# Altium schematic symbol library Ahristi_Library.SchLib: 438 symbols (part 1 of 5)
Pins are listed as number, name and electrical type; pins without a type are passive.

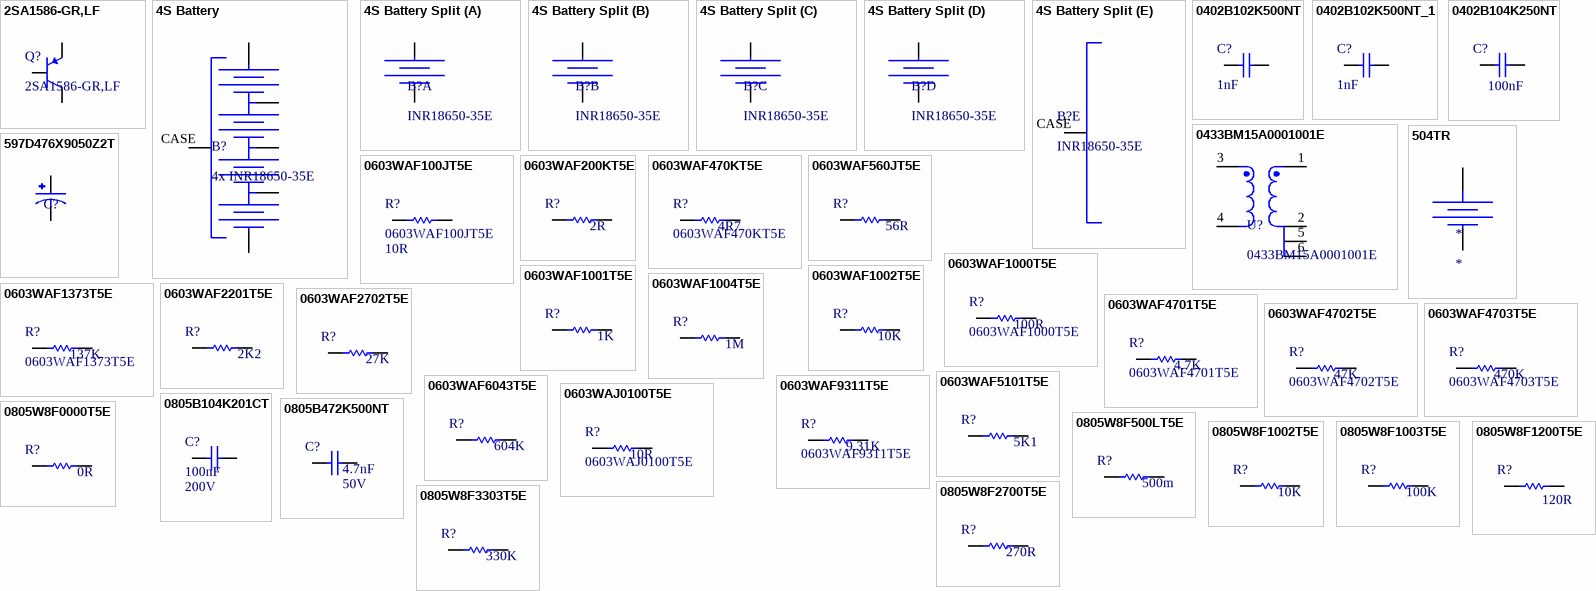
[diagram p0: symbols 2SA1586-GR,LF to 0805W8F3303T5E]

## 2SA1586-GR,LF
designator Q?
BJT PNP -50VCEO, -0.15A IC. -0.3V AEC-Q101; Manufacturer: Toshiba; VCEO: -50V; Ic: 0.15A; VCE saturation: 100mV; Part Number: 2SA1586-GR,LF; Distributor: Mouser; Distributor Part Number: 2SA1586-GR,LF; Operating Temperature: -55°C to 125°C; Qualification: AEC-Q101
footprint SOT23-3 BJT (Diodes Incorporated SOT-23 land pattern with MOSFET pin designators)
pins: B, C, E

## 4S Battery
designator B?, comment 4x INR18650-35E
Custom 4S battery component for Cubesat EPS; Part Number: N/A; Distributor Part Number: N/A
footprint 4S Battery (Custom 4S Battery Footprint)
pins: 1, 2, 3, 4, 5, CASE

## 4S Battery Split
designator B?, comment INR18650-35E
Custom 4S battery component for Cubesat EPS; Part Number: N/A; Distributor Part Number: N/A
footprint 4S Battery Direct Solder (Custom 4S Battery Footprint)
part A pins: 1, 2
part B pins: 3, 4
part C pins: 5, 6
part D pins: 7, 8
part E pins: CASE

## 0402B102K500NT
designator C?  Capacitance: 1nF  (hidden comment: 0402B102K500NT)
1nF 50V X7R ±10% 0402 Multilayer Ceramic Capacitors MLCC - SMD/SMT ROHS; Manufacturer: FH; Part Number: 0402B102K500NT; Tolerance: 10%; Distributor Part Number: C1523; Case Code: 0402; Distributor: JLCPCB; Dielectric: X7R; Voltage Rating: 50V
footprint CAPC0402X020 (Chip Capacitor, 2-Leads, Body 1.00x0.50mm, IPC Medium Density)
footprint CAPC0402X045
pins: 1, 2

## 0402B102K500NT_1
designator C?, comment Capacitance: 1nF  (hidden comment: 0402B102K500NT)
1nF 50V X7R ±10% 0402 Multilayer Ceramic Capacitors MLCC; Manufacturer: FH; Part Number: 0402B102K500NT; Tolerance: 10%; Distributor Part Number: C1523; Case Code: 0402; Distributor: JLCPCB; Dielectric: X7R; Voltage Rating: 50V
footprint CAPC0402X020 (Chip Capacitor, 2-Leads, Body 1.00x0.50mm, IPC Medium Density)
footprint CAPC0402X045
pins: 1, 2

## 0402B104K250NT
designator C?  Capacitance: 100nF  (hidden comment: 0402B104K250NT)
100nF 25V X7R ±10% 0402 Multilayer Ceramic Capacitors MLCC - SMD/SMT ROHS; Manufacturer: FH; Part Number: 0402B104K250NT; Tolerance: 10%; Distributor Part Number: C56392; Case Code: 0402; Distributor: JLCPCB; Dielectric: X7R; Voltage Rating: 25V
footprint CAPC0402X020 (Chip Capacitor, 2-Leads, Body 1.00x0.50mm, IPC Medium Density)
footprint CAPC0402X045
pins: 1, 2

## 0433BM15A0001001E
designator U?
RF Balun 430MHz ~ 435MHz 50 / -Ohm 0805 (2012 Metric), 6 PC Pad; Phase Difference: 180° ±10°; Insertion Loss (Max): 1.9dB; Return Loss: 9.5dB; Part Number: 0433BM15A0001001E; Frequency Range: 430MHz ~ 435MHz; ComponentLink1Description: Datasheet; ComponentLink1URL: https://www.johansontechnology.com/docs/876/0433BM15A0001_UhnVLFg.pdf; Distributor: *; Distributor Part Number: *
footprint 0433BM15A0001 (RF FILTER BAND PASS 433MHZ 0805)
pins: 1 3, 2 1, 3 6, 4 5, 5 1, 6 1

## 504TR
designator *
Battery Holder (Open) Coin, 16.0mm 1 Cell SMD (SMT) Tab; Part Number: 504TR; Base Material: LCP UL94V-0; Battery Reference: ML621; Distributor Part Number: 36-504CT-ND; Operating Temperature: -50C to 145C
footprint 504TR (Battery Holder (Open) Coin, 16.0mm 1 Cell SMD (SMT) Tab)
pins: 1, 2

## 597D476X9050Z2T
designator C?  (value not drawn)
47uF Conformal Coated Tantalum capacitor 50V 240mOhm; Part Number: 597D476X9050Z2T; Distributor: Digikey; Distributor Part Number: 718-1408-1-ND; Capacitance: 47uF; Voltage Rating: 50V; ERS: 240mOhm; Operating Temperature: -55°C ~ 125°C
footprint 597D476X9050Z2T (3024 Tantalum Capacitor)
pins: 1, 2

## 0603WAF100JT5E
designator R?  Resistance: 10R
10Ohms 75V Thick Film Resistor ±1% ±400ppm/℃ 0603 Chip Resistor - Surface Mount ROHS; Manufacturer: UNI-ROYAL; Part Number: 0603WAF100JT5E; Tolerance: 1%; Distributor Part Number: C22859; Distributor: JLCPCB; Case Code: 0603
footprint RESC0603 (Chip Resistor, 2-Leads, Body 1.60x0.80mm, IPC Medium Density)
pins: 1, 2

## 0603WAF200KT5E
designator R?  Resistance: 2R  (hidden comment: 0603WAF200KT5E)
2Ohm 75V Thick Film Resistor ±1% ±200ppm/℃ 0603 Chip Resistor - Surface Mount ROHS; Manufacturer: UNI-ROYAL; Part Number: 0603WAF200KT5E; Tolerance: 1%; Distributor Part Number: C22977; Distributor: JLCPCB; Case Code: 0603
footprint RESC0603 (Chip Resistor, 2-Leads, Body 1.60x0.80mm, IPC Medium Density)
pins: 1, 2

## 0603WAF470KT5E
designator R?  Resistance: 4R7
4.7Ohm 75V Thick Film Resistor ±1% ±400ppm/℃ 0603 Chip Resistor; Manufacturer: UNI-ROYAL; Part Number: 0603WAF470KT5E; Tolerance: 1%; Distributor Part Number: C23164; Distributor: JLCPCB; Case Code: 0603
footprint RESC0603 (Chip Resistor, 2-Leads, Body 1.60x0.80mm, IPC Medium Density)
pins: 1, 2

## 0603WAF560JT5E
designator R?  Resistance: 56R  (hidden comment: 0603WAF560JT5E)
56 Ohms 75V Thick Film Resistor ±1% ±200ppm/℃ 0603 Chip Resistor - Surface Mount ROHS; Manufacturer: UNI-ROYAL; Part Number: 0603WAF560JT5E; Tolerance: 1%; Distributor Part Number: C25196; Distributor: JLCPCB; Case Code: 0603
footprint RESC0603 (Chip Resistor, 2-Leads, Body 1.60x0.80mm, IPC Medium Density)
pins: 1, 2

## 0603WAF1000T5E
designator R?  Resistance: 100R
100 Ohms 75V Thick Film Resistor ±1% ±100ppm/℃ 0603 Chip Resistor - Surface Mount ROHS; Manufacturer: UNI-ROYAL; Part Number: 0603WAF1000T5E; Tolerance: 1%; Distributor Part Number: C22775; Distributor: JLCPCB; Case Code: 0603
footprint RESC0603 (Chip Resistor, 2-Leads, Body 1.60x0.80mm, IPC Medium Density)
pins: 1, 2

## 0603WAF1001T5E
designator R?  Resistance: 1K  (hidden comment: 0603WAF1001T5E)
1 kOhms 75V Thick Film Resistor ±1% ±100ppm/℃ 0603 Chip Resistor - Surface Mount ROHS; Manufacturer: UNI-ROYAL; Part Number: 0603WAF1001T5E; Tolerance: 1%; Distributor Part Number: C21190; Distributor: JLCPCB; Case Code: 0603
footprint RESC0603 (Chip Resistor, 2-Leads, Body 1.60x0.80mm, IPC Medium Density)
pins: 1, 2

## 0603WAF1002T5E
designator R?  Resistance: 10K  (hidden comment: 0603WAF1002T5E)
10kOhms ±1% 100mW 0603 Thick Film Resistor; Part Number: 0603WAF1002T5E; Tolerance: 1%; Distributor Part Number: C25804; Distributor: JLCPCB; Case Code: 0603
footprint RESC0603 (Chip Resistor, 2-Leads, Body 1.60x0.80mm, IPC Medium Density)
pins: 1, 2

## 0603WAF1004T5E
designator R?  Resistance: 1M  (hidden comment: 0603WAF1004T5E)
1 MOhms 75V Thick Film Resistor ±1% ±100ppm/℃ 0603 Chip Resistor - Surface Mount ROHS; Manufacturer: UNI-ROYAL; Part Number: 0603WAF1004T5E; Tolerance: 1%; Distributor Part Number: C22935; Distributor: JLCPCB; Case Code: 0603
footprint RESC0603 (Chip Resistor, 2-Leads, Body 1.60x0.80mm, IPC Medium Density)
pins: 1, 2

## 0603WAF1373T5E
designator R?  Resistance: 137K
137kOhms ±1% 100mW 0603 Thick Film Resistor; Manufacturer: UNI-ROYAL; Part Number: 0603WAF1373T5E; Tolerance: 1%; Distributor Part Number: C22872; Distributor: JLCPCB; Case Code: 0603
footprint RESC0603 (Chip Resistor, 2-Leads, Body 1.60x0.80mm, IPC Medium Density)
pins: 1, 2

## 0603WAF2201T5E
designator R?  Resistance: 2K2  (hidden comment: 0603WAF2201T5E)
2.2kOhms 75V Thick Film Resistor ±1% ±100ppm/℃ 0603 Chip Resistor - Surface Mount ROHS; Manufacturer: UNI-ROYAL; Part Number: 0603WAF2201T5E; Tolerance: 1%; Distributor Part Number: C4190; Distributor: JLCPCB; Case Code: 0603
footprint RESC0603 (Chip Resistor, 2-Leads, Body 1.60x0.80mm, IPC Medium Density)
pins: 1, 2

## 0603WAF2702T5E
designator R?  Resistance: 27K  (hidden comment: 0603WAF2702T5E)
27 kOhms 75V Thick Film Resistor ±1% ±100ppm/℃ 0603 Chip Resistor - Surface Mount ROHS; Manufacturer: UNI-ROYAL; Part Number: 0603WAF2702T5E; Tolerance: 1%; Distributor Part Number: C22967; Distributor: JLCPCB; Case Code: 0603
footprint RESC0603 (Chip Resistor, 2-Leads, Body 1.60x0.80mm, IPC Medium Density)
pins: 1, 2

## 0603WAF4701T5E
designator R?  Resistance: 4.7K
4.7 kOhms 75V Thick Film Resistor ±1% ±100ppm/℃ 0603 Chip Resistor - Surface Mount ROHS; Manufacturer: UNI-ROYAL; Part Number: 0603WAF4701T5E; Tolerance: 1%; Distributor Part Number: C23162; Distributor: JLCPCB; Case Code: 0603
footprint RESC0603 (Chip Resistor, 2-Leads, Body 1.60x0.80mm, IPC Medium Density)
pins: 1, 2

## 0603WAF4702T5E
designator R?  Resistance: 47K
47kOhms 75V Thick Film Resistor ±1% ±100ppm/℃ 0603 Chip Resistor - Surface Mount ROHS; Manufacturer: UNI-ROYAL; Part Number: 0603WAF4702T5E; Tolerance: 1%; Distributor Part Number: C25819; Distributor: JLCPCB; Case Code: 0603
footprint RESC0603 (Chip Resistor, 2-Leads, Body 1.60x0.80mm, IPC Medium Density)
pins: 1, 2

## 0603WAF4703T5E
designator R?  Resistance: 470K
470kOhms ±1% 100mW 0603 Thick Film Resistor; Manufacturer: UNI-ROYAL; Part Number: 0603WAF4703T5E; Tolerance: 1%; Distributor Part Number: C23178; Distributor: JLCPCB; Case Code: 0603
footprint RESC0603 (Chip Resistor, 2-Leads, Body 1.60x0.80mm, IPC Medium Density)
pins: 1, 2

## 0603WAF5101T5E
designator R?  Resistance: 5K1  (hidden comment: 0603WAF5101T5E)
5.1KOhm 0603 75V Thick Film Resistor ±1% ±100ppm/℃ -55℃~+155℃ 100mW; Manufacturer: UNIROYAL; Part Number: 0603WAF5101T5E; Tolerance: 1%; Distributor Part Number: C23186; Distributor: JLCPCB; Case Code: 0603
footprint RESC0603 (Chip Resistor, 2-Leads, Body 1.60x0.80mm, IPC Medium Density)
pins: 1, 2

## 0603WAF6043T5E
designator R?  Resistance: 604K  (hidden comment: 0603WAF6043T5E)
604 kOhms 75V Thick Film Resistor ±1% ±100ppm/℃ 0603 Chip Resistor - Surface Mount ROHS; Manufacturer: UNI-ROYAL; Part Number: 0603WAF6043T5E; Tolerance: 1%; Distributor Part Number: C23216; Distributor: JLCPCB; Case Code: 0805
footprint RESC0603 (Chip Resistor, 2-Leads, Body 1.60x0.80mm, IPC Medium Density)
pins: 1, 2

## 0603WAF9311T5E
designator R?  Resistance: 9.31K
9.31 kOhms Thick Film Resistor ±1% ±100ppm/℃ 0603 Chip Resistor - Surface Mount ROHS; Manufacturer: UNI-ROYAL; Part Number: 0603WAF9311T5E; Tolerance: 1%; Distributor Part Number: C23126; Distributor: JLCPCB; Case Code: 0603
footprint RESC0603 (Chip Resistor, 2-Leads, Body 1.60x0.80mm, IPC Medium Density)
pins: 1, 2

## 0603WAJ0100T5E
designator R?  Resistance: 10R
10 Ohms 75V Thick Film Resistor ±200ppm/℃ ±5% 0603 Chip Resistor - Surface Mount ROHS -55℃~+155℃; Part Number: 0603WAJ0100T5E; Tolerance: 5%; Distributor Part Number: C25202; Distributor: JLCPCB; Case Code: 0603
footprint RESC0603 (Chip Resistor, 2-Leads, Body 1.60x0.80mm, IPC Medium Density)
pins: 1, 2

## 0805B104K201CT
designator C?  Voltage Rating: 200V  Capacitance: 100nF  (hidden comment: 0805B104K201CT)
0.1 µF ±10% 200V Ceramic Capacitor X7R 0805 (2012 Metric); Part Number: 0805B104K201CT; Distributor Part Number: 1292-0805B104K201CT-ND; Tolerance: 10%; Case Code: 0805; Distributor: Digikey
footprint CAPC0805X060 (Chip Capacitor, 2-Leads, Body 1.00x0.50mm, IPC Medium Density)
footprint CAPC0805X085 (Chip Resistor, 2-Leads, Body 2.00x1.25mm, IPC Medium Density)
footprint CAPC0805X125 (Chip Resistor, 2-Leads, Body 2.00x1.25mm, IPC Medium Density)
footprint CAPC0805X135 (Chip Capacitor, 2-Leads, Body 1.00x0.50mm, IPC Medium Density)
pins: 1, 2

## 0805B472K500NT
designator C?  Voltage Rating: 50V  Capacitance: 4.7nF  (hidden comment: 0805B472K500NT)
4.7nF 50V X7R ±10% 0805 Multilayer Ceramic Capacitors MLCC - SMD/SMT ROHS; Manufacturer: FH; Part Number: 0805B472K500NT; Distributor Part Number: C1744; Tolerance: 10%; Case Code: 0805; Distributor: JLCPCB; Dielectric: X7R
footprint CAPC0805X060 (Chip Capacitor, 2-Leads, Body 1.00x0.50mm, IPC Medium Density)
footprint CAPC0805X085 (Chip Resistor, 2-Leads, Body 2.00x1.25mm, IPC Medium Density)
footprint CAPC0805X125 (Chip Resistor, 2-Leads, Body 2.00x1.25mm, IPC Medium Density)
footprint CAPC0805X135 (Chip Capacitor, 2-Leads, Body 1.00x0.50mm, IPC Medium Density)
pins: 1, 2

## 0805W8F0000T5E
designator R?  Resistance: 0R  (hidden comment: 0805W8F0000T5E)
0 Ohms 125mW 150V Thick Film Resistor ±1% ±800ppm/℃ 0805 Chip Resistor - Surface Mount ROHS; Manufacturer: UNI-ROYAL; Part Number: 0805W8F0000T5E; Tolerance: 1%; Distributor Part Number: C17477; Distributor: JLCPCB; Case Code: 0805
footprint RESC0805 (Chip Resistor, 2-Leads, Body 1.00x0.50mm, IPC Medium Density)
pins: 1, 2

## 0805W8F500LT5E
designator R?  Resistance: 500m  (hidden comment: 0805W8F500LT5E)
500mOhm Thick Film Resistor ±1% ±800ppm/℃ 0805 Chip Resistor; Manufacturer: UNI-ROYAL; Part Number: 0805W8F500LT5E; Tolerance: 1%; Distributor Part Number: C28319; Distributor: JLCPCB; Case Code: 0805
footprint RESC0805 (Chip Resistor, 2-Leads, Body 1.00x0.50mm, IPC Medium Density)
pins: 1, 2

## 0805W8F1002T5E
designator R?  Resistance: 10K  (hidden comment: 0805W8F1002T5E)
10kOhms 125mW 150V Thick Film Resistor ±1% ±100ppm/℃ 0805 Chip Resistor - Surface Mount ROHS; Manufacturer: UNI-ROYAL; Part Number: 0805W8F1002T5E; Tolerance: 1%; Distributor Part Number: C17414; Distributor: JLCPCB; Case Code: 0805
footprint RESC0805 (Chip Resistor, 2-Leads, Body 1.00x0.50mm, IPC Medium Density)
pins: 1, 2

## 0805W8F1003T5E
designator R?  Resistance: 100K  (hidden comment: 0805W8F1003T5E)
100 kOhms 125mW 150V Thick Film Resistor ±1% ±100ppm/℃ 0805 Chip Resistor - Surface Mount ROHS; Manufacturer: UNI-ROYAL; Part Number: 0805W8F1003T5E; Tolerance: 1%; Distributor Part Number: C149504; Distributor: JLCPCB; Case Code: 0805
footprint RESC0805 (Chip Resistor, 2-Leads, Body 1.00x0.50mm, IPC Medium Density)
pins: 1, 2

## 0805W8F1200T5E
designator R?  Resistance: 120R  (hidden comment: 0805W8F1200T5E)
120Ohm 0805 125mW 150V Thick Film Resistor ±1% ±100ppm/℃-55℃~+155℃; Manufacturer: UNIROYAL; Part Number: 0805W8F1200T5E; Tolerance: 1%; Distributor Part Number: C17437; Distributor: JLCPCB; Case Code: 0805
footprint RESC0805 (Chip Resistor, 2-Leads, Body 1.00x0.50mm, IPC Medium Density)
pins: 1, 2

## 0805W8F2700T5E
designator R?  Resistance: 270R  (hidden comment: 0805W8F2700T5E)
270Ohms Thick Film Resistor ±1% ±100ppm/℃ 0805 Chip Resistor - Surface Mount ROHS; Manufacturer: UNI-ROYAL; Part Number: 0805W8F2700T5E; Tolerance: 1%; Distributor Part Number: C17590; Distributor: JLCPCB; Case Code: 0805
footprint RESC0805 (Chip Resistor, 2-Leads, Body 1.00x0.50mm, IPC Medium Density)
pins: 1, 2

## 0805W8F3303T5E
designator R?  Resistance: 330K  (hidden comment: 0805W8F3303T5E)
330 kOhms Thick Film Resistor ±1% ±100ppm/℃ 0805 Chip Resistor - Surface Mount ROHS; Manufacturer: UNI-ROYAL; Part Number: 0805W8F3303T5E; Tolerance: 1%; Distributor Part Number: C17629; Distributor: JLCPCB; Case Code: 0805
footprint RESC0805 (Chip Resistor, 2-Leads, Body 1.00x0.50mm, IPC Medium Density)
pins: 1, 2

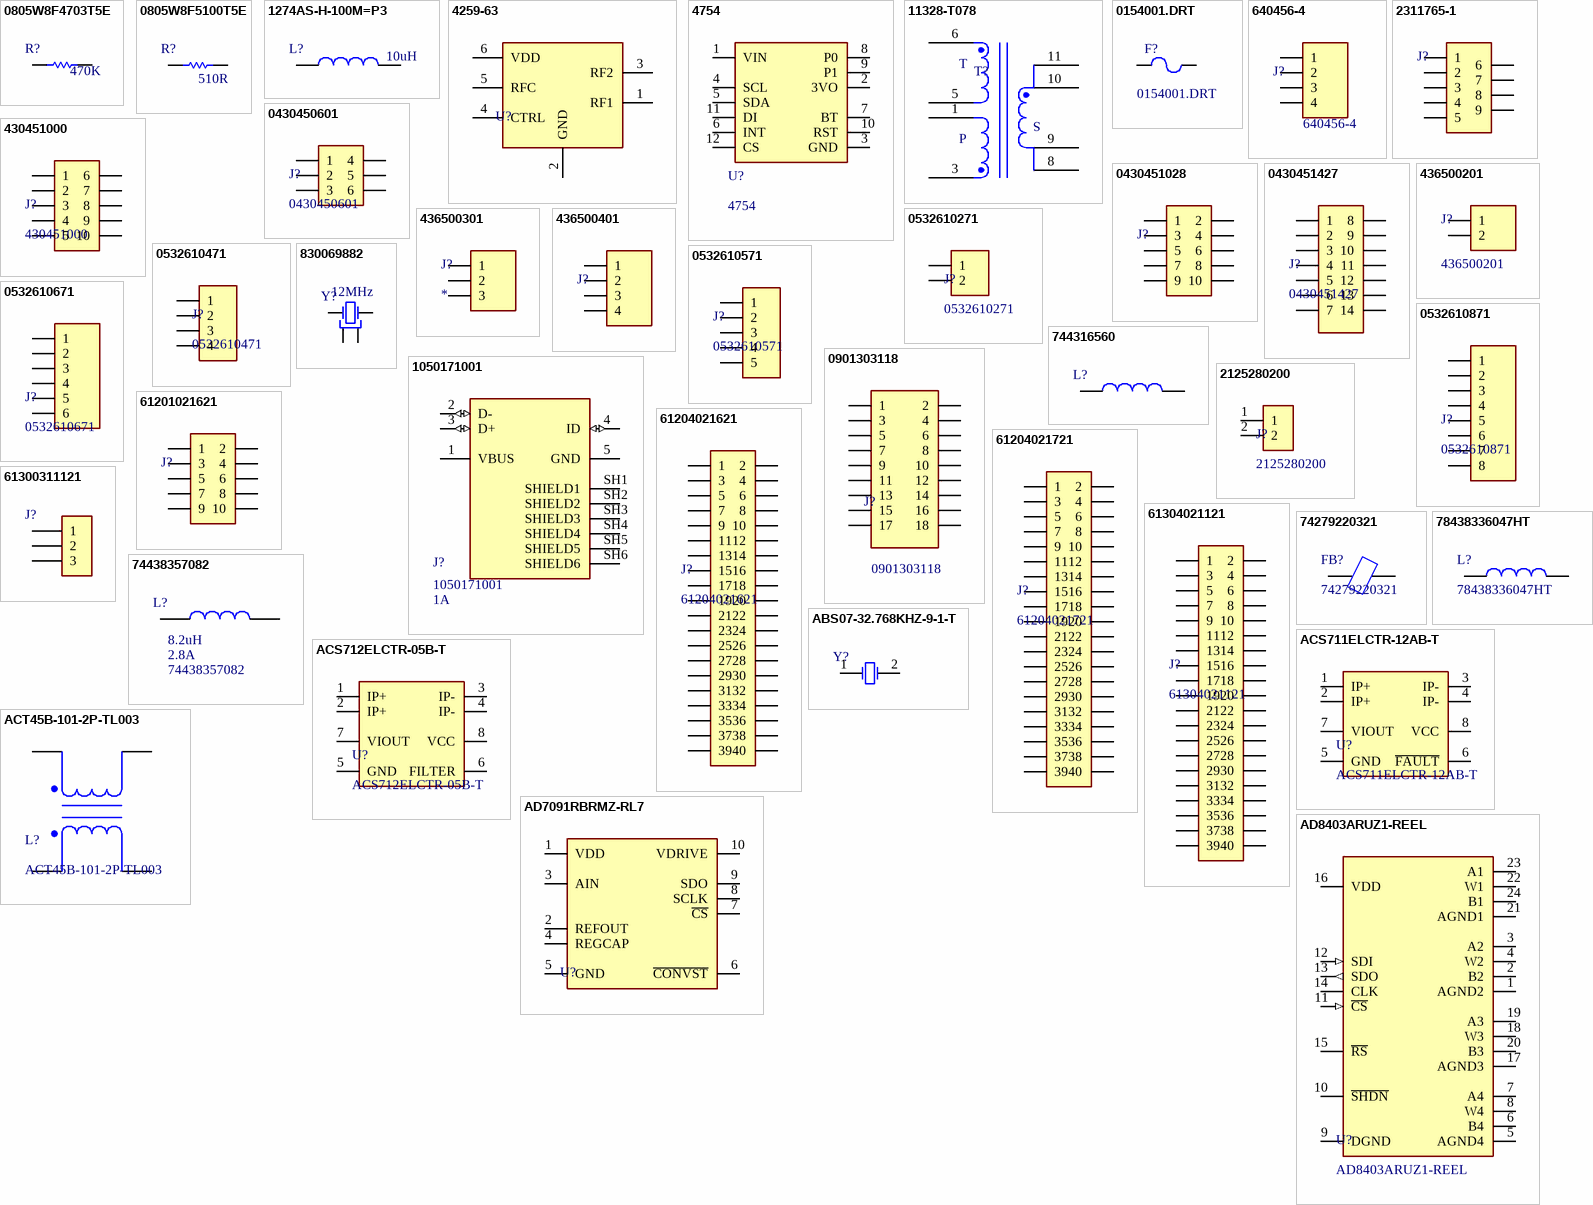
[diagram p1: symbols 0805W8F4703T5E to AD8403ARUZ1-REEL]

## 0805W8F4703T5E
designator R?  Resistance: 470K  (hidden comment: 0805W8F4703T5E)
470 kOhms Thick Film Resistor ±1% ±100ppm/℃ 0805 Chip Resistor - Surface Mount ROHS; Manufacturer: UNI-ROYAL; Part Number: 0805W8F4703T5E; Tolerance: 1%; Distributor Part Number: C17709; Distributor: JLCPCB; Case Code: 0805
footprint RESC0805 (Chip Resistor, 2-Leads, Body 1.00x0.50mm, IPC Medium Density)
pins: 1, 2

## 0805W8F5100T5E
designator R?  Resistance: 510R  (hidden comment: 0805W8F5100T5E)
510Ohm 0805 Thick Film Resistor ±1% ±100ppm/℃ -55℃~+155℃ 125mW 150V; Manufacturer: UNIROYAL; Part Number: 0805W8F5100T5E; Tolerance: 1%; Distributor Part Number: C17734; Distributor: JLCPCB; Case Code: 0805
footprint RESC0805 (Chip Resistor, 2-Leads, Body 1.00x0.50mm, IPC Medium Density)
pins: 1, 2

## 1274AS-H-100M=P3
designator L?  Inductance: 10uH  (hidden comment: 1274AS-H-100M=P3)
Inductor 10 µH , 4.4 A 30.4mOhm Max Shielded Drum Core; Current Rating: 4.4A; Saturation Current: 6.2A; Part Number: 1274AS-H-100M=P3; Distributor Part Number: 490-10846-1-ND; Distributor: Digikey; DCR: 30.4mOhm
footprint 1274AS-H-100M=P3 (Murata 3939 Inductor)
pins: 1, 2

## 4259-63
designator U?
RF Switch IC General Purpose SPDT 3 GHz 50Ohm SC-70-6; Part Number: 4259-63; Frequency Range: 10MHz~3GHz; Isolation: 20dB; Insertion Loss: 0.5dB; Voltage Supply: 1.8V~3.3V; Circuit: SPDT; Impedance: 50ohm; Operating Temperature: -40C~85C; ComponentLink1Description: Datasheet; ComponentLink1URL: https://www.psemi.com/pdf/datasheets/pe4259ds.pdf; Distributor: *; Distributor Part Number: *
footprint SC70 6-Lead
pins: 1 RF1, 2 GND, 3 RF2, 4 CTRL, 5 RFC, 6 VDD

## 4754
designator U?
Adafruit 9-DOF Orientation IMU Fusion Breakout - BNO085 (BNO080) - STEMMA QT / Qwiic; Voltage Input: 3V~5V; Part Number: 4754; Distributor: Digikey; Distributor part Number: 1528-4754-ND
footprint 4754 - DIRECT SOLDER (ADAFRUIT 9-DOF ORIENTATION IMU)
footprint 4754 - Full Stack (ADAFRUIT 9-DOF ORIENTATION IMU)
pins: 1 VIN, 2 3VO, 3 GND, 4 SCL, 5 SDA, 6 INT, 7 BT, 8 P0, 9 P1, 10 RST, 11 DI, 12 CS

## 11328-T078
designator T?
Power Transformers 8:1:1 670uH
footprint 11328-T074 (Power Transformers Flyback Transformer for LT8316)
pins: 1, 3, 5, 6, 8, 9, 10, 11
text: T; S; P

## 0154001.DRT
designator F?  Part Number: 0154001.DRT
Fuseblock w/ fuse 1A Surface Mount; Interrupt Rating: 50A at 125VAC 50A at 125VDC; Fuse Size: 9.73 mm x 5.03 mm; Min Temperature: -55C; Max Temperature: 125C; Current Rating: 1A; Distributor: *; Distributor Part Number: *
footprint 0154001.DRT (Fuseblock with fuse SMA)
pins: 1, 2

## 640456-4
designator J?  Part Number: 640456-4
Header 4 position  through hole 0.100" mshrouded; Positions: 4; Rows: 1; Digikey Part Number: A1922-ND; ComponentLink1Description: Datasheet; ComponentLink1URL: https://www.te.com/commerce/DocumentDelivery/DDEController?Action=srchrtrv&DocNm=640456&DocType=Customer+Drawing&DocLang=English
footprint 640456-4 (CONN HEADER VERT 4POS 2.54MM)
pins: 1, 2, 3, 4

## 2311765-1
designator J?  (value not drawn)
Connector Header D-SUB Receptacle 9 Pin R/A; Number of Positions: 9; Part Number: 2311765-1; Distributor: Digikey; Distributor Part Number: 2311765-1-ND; Operating Temperature: -55°C ~ 105°C
pins: 1, 2, 3, 4, 5, 6, 7, 8, 9

## 0430450601
designator J?
Connector Header Through Hole, Right Angle 6 position 0.118" (3.00mm) Molex Microfit; Number of Positions: 6; Voltage Rating: 600V; Current Rating: 8.5A; Part Number: 0430450601; Distributor: Digikey; Distributor Part Number: WM4037-ND; Number of Rows: 2; Operating Temperature: -40°C ~ 105°C
footprint 0430450601 (Molex Microfit 6positions Angled)
pins: 1, 2, 3, 4, 5, 6

## 430451000
designator J?
Conn Wire to Board HDR 10 POS 3mm Solder RA Side Entry Thru-Hole Micro-Fit 3.0™ Tray; Number of Positions: 10; Voltage Rating: 600V; Current Rating: 8.5A; Part Number: 430451000; Number of Rows: 2; Operating Temperature: -40C ~ 105C; Distributor: *; Distributor Part Number: *
footprint 430451000 (Molex 10Pos 2Row)
pins: 1, 2, 3, 4, 5, 6, 7, 8, 9, 10

## 0430451028
designator J?  (value not drawn)
Connector Header Through Hole 10 position 0.118" (3.00mm); Number of Positions: 10; Current Rating: 8.5A; Voltage Rating: 600V; Part Number: 0430451028; Distributor: Digikey; Distributor Part Number: WM10696-ND; Number of Rows: 2; Operating Temperature: -40°C ~ 105°C
footprint 0430451028 (Molex Microfit 10 Position)
pins: 1, 2, 3, 4, 5, 6, 7, 8, 9, 10

## 0430451427
designator J?
Connector Header Through Hole 14 position 0.118" (3.00mm) Molex Microfit; Voltage Rating: 600V; Number of Positions: 14; Part Number: 0430451427; Distributor: Digikey; Distributor Part Number: WM10707-ND; Operating Temperature: -40°C ~ 105°C; Number of Rows: 2
footprint 0430451427 (Molex Microfit 14Pos)
pins: 1, 2, 3, 4, 5, 6, 7, 8, 9, 10, 11, 12, 13, 14

## 436500201
designator J?  Manufacturer Part Number: 436500201  (hidden comment: *)
Conn Power HDR 2 POS 3mm Solder RA Thru-Hole 2 Terminal 1 Port Micro-Fit 3.0™ Tray; Number of Positions: 2; Distributor: *; Distributor Part Number: *; Number of Rows: 1
footprint 436500201 (Conn Power HDR 2 POS 3mm Solder RA Thru-Hole 2 Terminal 1 Port Micro-Fit 3.0™ Tray)
pins: 1, 2

## 436500301
designator J?
Conn Power HDR 2 POS 3mm Solder RA Thru-Hole 2 Terminal 1 Port Micro-Fit 3.0™ Tray; Manufacturer Part Number: 436500301; Number of Positions: 3; Maximum Pin Current: 8.5A; Number of Rows: 1; Operating Temperature: -40C to 125C
footprint 436500301
pins: 1, 2, 3

## 436500401
designator J?
Connector Header Through Hole, Right Angle 4 position 0.118" (3.00mm); Manufacturer Part Number: 436500401; Number of Positions: 4; Maximum Pin Current: 8.5 A; Number of Rows: 1; Operating Temperature: -40C to 125C
footprint 436500401 (MOLEX Connector Header Through Hole, Right Angle 4 position 0.118" (3.00mm))
pins: 1, 2, 3, 4

## 0532610271
designator J?
Connector Header, Picoblade Surface Mount, Right Angle 2 position 0.049" (1.25mm); Number of Positions: 2; Max Current Per Contact: 1A; Part Number: 0532610271; Distributor: Digikey; Distributor Part Number: WM7620CT-ND; Number of Rows: 1
footprint 0532610271 (Molex Picoblade 2pin)
pins: 1, 2

## 0532610471
designator J?
Connector Header Surface Mount, Right Angle 4 position 0.049" (1.25mm) Molex Picoblade; Number of Positions: 4; Max Current Per Contact: 1A; Part Number: 0532610471; Distributor: Digikey; Distributor Part Number: WM7622CT-ND; Number of Rows: 2
footprint 0532610471 (Molex Picoblade 4pin)
pins: 1, 2, 3, 4

## 0532610571
designator J?
Connector Header Surface Mount, Right Angle 5 position 0.049" (1.25mm) Picoblade; Number of Positions: 5; Current Rating: 1A; Voltage Rating: 125V; Part Number: 0532610571; Distributor Part Number: WM7623CT-ND; Number of Rows: 1
footprint 0532610571 (Molex Picoblade 5 Pin Right Angled Surface Mount)
pins: 1, 2, 3, 4, 5

## 0532610671
designator J?
Connector Header Surface Mount, Right Angle 6 position 0.049" (1.25mm) Picoblade; Number of Positions: 6; Contact Current (Max): 1A; Material Flammability Rating: UL94 V-0; Part Number: 0532610671; Distributor Part Number: WM7624CT-ND; Distributor: Digikey
footprint 0532610671 (Molex Picoblade 6pin)
pins: 1, 2, 3, 4, 5, 6

## 0532610871
designator J?
Connector Header Surface Mount, Right Angle 8 position 0.049" (1.25mm) Picoblade; Number of Positions: 8; Contact Current (Max): 1A; Material Flammability Rating: UL94 V-0; Part Number: 0532610871; Distributor Part Number: WM7624CT-ND; Distributor: Digikey
footprint 0532610871 (Molex Picoblade 8 pin)
pins: 1, 2, 3, 4, 5, 6, 7, 8

## 744316560
designator L?  (value not drawn)
Inductor 5.6uH 4.5A Shielded 28.5mOhm SMD; Saturation Current: 4.6A; Part Number: 744316560; Distributor Part Number: 732-6183-1-ND; Distributor: Digikey; Current Rating: 4.5A; DCR: 28.5mOhm
footprint 744316560 (5040 Wurth Inductor)
pins: 1, 2

## 830069882
designator Y?  Frequency: 12MHz
Crystals 12.0 MHZ 18PF 20PPM 120OHM; Part Number: 830069882; Load Capacitance: 10pF; ESR: 100R; Distributor Part Number: *; Operating Temperature: -40C to 125C; Distributor: *
footprint 830069882 (Crystals WE-XTAL 12.0MHz 100ppm 3.2 x 2.5mm)
pins: 1 OSC1, 2 OSC1, 3 OSC2, 4 OSC1

## 0901303118
designator J?  Part Number: 0901303118
Header, 18 Position, Through Hole, Right angled, 0.100"; Number of Positions: 18; Number of Rows: 2; Digikey Part Number: WM8267-ND; ComponentLink1Description: Datasheet; ComponentLink1URL: https://www.farnell.com/datasheets/7022.pdf
footprint 901303118 (CONN HEADER R/A 18POS 2.54MM)
pins: 1, 2, 3, 4, 5, 6, 7, 8, 9, 10, 11, 12, 13, 14, 15, 16, 17, 18

## 1050171001
designator J?  Current Rating: 1A  Manufacturer Part Number: 1050171001
CONN RCPT USB2.0 MICRO B SMD R/A; Operating Temperature Range: -30C to 85C
footprint 1050171001 (CONN RCPT USB2.0 MICRO B SMD R/A)
pins: 1 VBUS (power), 2 D- (io), 3 D+ (io), 4 ID (io), 5 GND (power), SH1 SHIELD1, SH2 SHIELD2, SH3 SHIELD3, SH4 SHIELD4, SH5 SHIELD5, SH6 SHIELD6

## 2125280200
designator J?
Connector Header Through Hole, Right Angle 2 position; Positions: 2; Rows: 1; Row Spacing: 3.0mm; Voltage Rating: 600VAC/DC; Part Number: 2125280200; Operating Temperature: -40C ~ 125C; ComponentLink1Description: Datasheet; ComponentLink1URL: https://www.molex.com/webdocs/datasheets/pdf/en-us/2125280200_PCB_HEADERS.pdf
footprint 2125280200 (Conn Wire to Board HDR 2 POS 3mm Solder RA Side Entry Thru-Hole Tray)
pins: 1, 2

## 61201021621
designator J?  (value not drawn)
Connector Header Through Hole 10 Position 0.100"; Number of Positions: 10; Current Rating: 3A; Voltage Rating: 250V; Part Number: 61201021621; Distributor: Digikey; Distributor Part Number: 732-2094-ND; Number of Rows: 2; Operating Temperature: -40°C ~ 105°C
footprint 61201021621 (Connector Header Through Hole 10 position 0.100" (2.54mm))
pins: 1, 2, 3, 4, 5, 6, 7, 8, 9, 10

## 61204021621
designator J?
Connector Header Through Hole 40 position 0.100" (2.54mm); Number of Positions: 40; Curent Rating: 3A; Voltage Rating: 250V; Part Number: 61204021621; Distributor Part Number: 732-5401-ND; Distributor: Digikey; Number of Rows: 2; Operating Temperature: -40°C ~ 105°C
footprint 61204021621 (Connector Header Through Hole 40 position 0.100" (2.54mm))
pins: 1, 2, 3, 4, 5, 6, 7, 8, 9, 10, 11, 12, 13, 14, 15, 16, 17, 18, 19, 20, 21, 22, 23, 24, 25, 26, 27, 28, 29, 30, 31, 32, 33, 34, 35, 36, 37, 38, 39, 40

## 61204021721
designator J?
Connector Header Through Hole, Right Angle 40 position 0.100" (2.54mm); Number of Positions: 40; Curent Rating: 3A; Voltage Rating: 250V; Part Number: 61204021721; Distributor Part Number: 732-5413-ND; Distributor: Digikey; Number of Rows: 2; Operating Temperature: -40°C ~ 105°C
footprint 61204021721 (Connector Header Through Hole, Right Angle 40 position 0.100" (2.54mm))
pins: 1, 2, 3, 4, 5, 6, 7, 8, 9, 10, 11, 12, 13, 14, 15, 16, 17, 18, 19, 20, 21, 22, 23, 24, 25, 26, 27, 28, 29, 30, 31, 32, 33, 34, 35, 36, 37, 38, 39, 40

## 61300311121
designator J?  (value not drawn)
Header 2.54mm, 1x3 Position; Rows: 1; Positions: 3; Current Rating (A): 3A; Manufacturer Part Number: 61300311121; Distributor Part Number: 732-5316-ND; Operating Temperature: -40°C ~ 105°C
footprint 61300311121 (CONN HEADER VERT 3POS 2.54MM)
pins: 1, 2, 3

## 61304021121
designator J?
Connector Header Through Hole 40 position 0.100" (2.54mm) Unshrouded; Number of Positions: 40; Curent Rating: 3A; Voltage Rating: 250V; Part Number: 61304021121; Distributor Part Number: 732-5310-ND; Distributor: Digikey; Number of Rows: 2; Operating Temperature: -40°C ~ 105°C
footprint 61304021121 (Connector Header Through Hole 40 position 0.100" (2.54mm))
pins: 1, 2, 3, 4, 5, 6, 7, 8, 9, 10, 11, 12, 13, 14, 15, 16, 17, 18, 19, 20, 21, 22, 23, 24, 25, 26, 27, 28, 29, 30, 31, 32, 33, 34, 35, 36, 37, 38, 39, 40

## 74279220321
designator FB?
Ferrite Bead 320 Ohms @ 100 MHz 1 Ferrite Bead 0805 (2012 Metric) 2.5A 50mOhm; Part Number: 74279220321; Distributor Part Number: *; Distributor: *; Operating Temperature: -55°C ~ 125°C; Impedance: 320 Ohms @ 100 MHz; Current Rating: 2.5A; DCR: 50mOhm
footprint 74279220321 (Ferrite Bead 0805)
pins: 1, 2

## 74438357082
designator L?  Current Rating: 2.8A  Inductance: 8.2uH  Part Number: 74438357082
8.2 µH Shielded Molded Inductor 2.8 A 86mOhm Max 1616 (4040 Metric); Saturation Current: 5.2A; Operating Temperature: -40°C ~ 125°C; DC Resistance: 86mOhm; ComponentLink1Description: Datasheet; ComponentLink1URL: https://www.we-online.com/components/products/datasheet/74438357082.pdf
footprint 74438357082 (8.2 µH Shielded Molded Inductor 2.8 A 86mOhm Max 1616 (4040 Metric))
pins: 1, 2

## 78438336047HT
designator L?
4.7 µH Shielded Molded Inductor 2.5 A 150.2mOhm Max 1212 (3030 Metric); Inductance: 4.7uH; Maximum DC Current: 2.5A; DCR: 150mOhm; Self Resonant Frequency: 28MHz; Tolerance: ±20%; Qualification: AEC-Q200; Part Number: 78438336047HT; Operating Temperature: -55°C ~ 150°C; Package: 1212
footprint 78438336047HT (1212 Shielded Inductor)
pins: 1, 2

## ABS07-32.768KHZ-9-1-T
designator Y?
32.768 kHz ±10ppm Crystal 9pF 70 kOhms 2-SMD, No Lead; Manufacturer Part Number: ABS07-32.768KHZ-9-1-T; ESR: 100kohm; Distributor Part Number: *; Frequency: 32.768 kHz; Load Capacitance: 9 pF; Operating Temperature range: -40C to 85C
footprint ABS07-32.768KHZ-9-1-T (32.768 kHz ±10ppm Crystal 9pF 70 kOhms 2-SMD, No Lead)
pins: 1 OSC1, 2 OSC2

## ACS711ELCTR-12AB-T
designator U?
Current Sensor 12.5A 1 Channel Hall Effect, Open Loop Bidirectional 8-SOIC; Sensitivity: 110mV/A; Voltage Supply: 3V ~ 5.5V; Part Number: ACS711ELCTR-12AB-T; Distributor: Digikey; Distributor Part Number: 620-1370-1-ND; Current - Sensing: 12.5A
footprint SOIC-8 (SOIC-8 Analog Devices Spec)
pins: 1 IP+, 2 IP+, 3 IP-, 4 IP-, 5 GND, 6 ~{FAULT}, 7 VIOUT, 8 VCC

## ACS712ELCTR-05B-T
designator U?
Current Sensor 5A 1 Channel Hall Effect, Open Loop Bidirectional 8-SOIC; Sensitivity: 185mV/A; Voltage Supply: 5V; Part Number: ACS712ELCTR-05B-T; Distributor: JLCPCB; Distributor Part Number: C44471; Current - Sensing: 5A
footprint SOIC-8 (SOIC-8 Analog Devices Spec)
pins: 1 IP+, 2 IP+, 3 IP-, 4 IP-, 5 GND, 6 FILTER, 7 VIOUT, 8 VCC

## ACT45B-101-2P-TL003
designator L?
Common Mode Choke 100 µH @ 100 kHz 2 Line Surface Mount 5.8 kOhms @ 10 MHz 150mA DCR 2Ohm; Inductance: 100uH @ 100kHz; Voltage Rating (DC): 50V; Qualification: AEC-Q200; Part Number: ACT45B-101-2P-TL003; Distributor: Digikey; Distributor Part Number: 445-3959-1-ND; Impedance: 5.8kohms @ 10MHz; Current Rating (Max): 150mA; DCR: 2Ohm; Operating Temperature: -40°C ~ 150°C
footprint ACT45B-101-2P-TL003 (Common Mode Choke 4.50mm x 3.20mm)
pins: 1, 2, 3, 4

## AD7091RBRMZ-RL7
designator U?  (value not drawn)
12 Bit Analog to Digital Converter 1 Input 1 SAR 10-MSOP; Voltage Supply - Analog: 2.09V ~ 5.25V; Sample Rate: 1MSps; Number of Bits: 12; Part Number: AD7091RBRMZ-RL7; Distributor: Digikey; Distributor Part Number: 505-AD7091RBRMZ-RL7CT-ND; Operating Temperature: -40°C ~ 125°C; Voltage Supply - Digital: 2.09V ~ 5.25V
footprint 10-MSOP (Analog Devices 10-MSOP)
pins: 1 VDD, 2 REFOUT, 3 AIN, 4 REGCAP, 5 GND, 6 ~{CONVST}, 7 ~{CS}, 8 SCLK, 9 SDO, 10 VDRIVE

## AD8403ARUZ1-REEL
designator U?
Digital Potentiometer 1k Ohm 4 Circuit 256 Taps SPI Interface 24-TSSOP; Voltage Supply: 2.7V ~ 5.5V; Temperature Coefficient (Typ): 700ppm/°C; Number of Circuits: 4; Number of Taps: 256; Part Number: AD8403ARUZ1-REEL; Distributor: Digikey; Distributor Part Number: AD8403ARUZ1-REELCT-ND; Operating Temperature: -40C ~ 125C; Resistance: 1K
footprint TSSOP-24
pins: 1 AGND2, 2 B2, 3 A2, 4 W2, 5 AGND4, 6 B4, 7 A4, 8 W4, 9 DGND, 10 ~{SHDN}, 11 ~{CS} (in), 12 SDI (in), 13 SDO (out), 14 CLK, 15 ~{RS}, 16 VDD, 17 AGND3, 18 W3, 19 A3, 20 B3, 21 AGND1, 22 W1, 23 A1, 24 B1

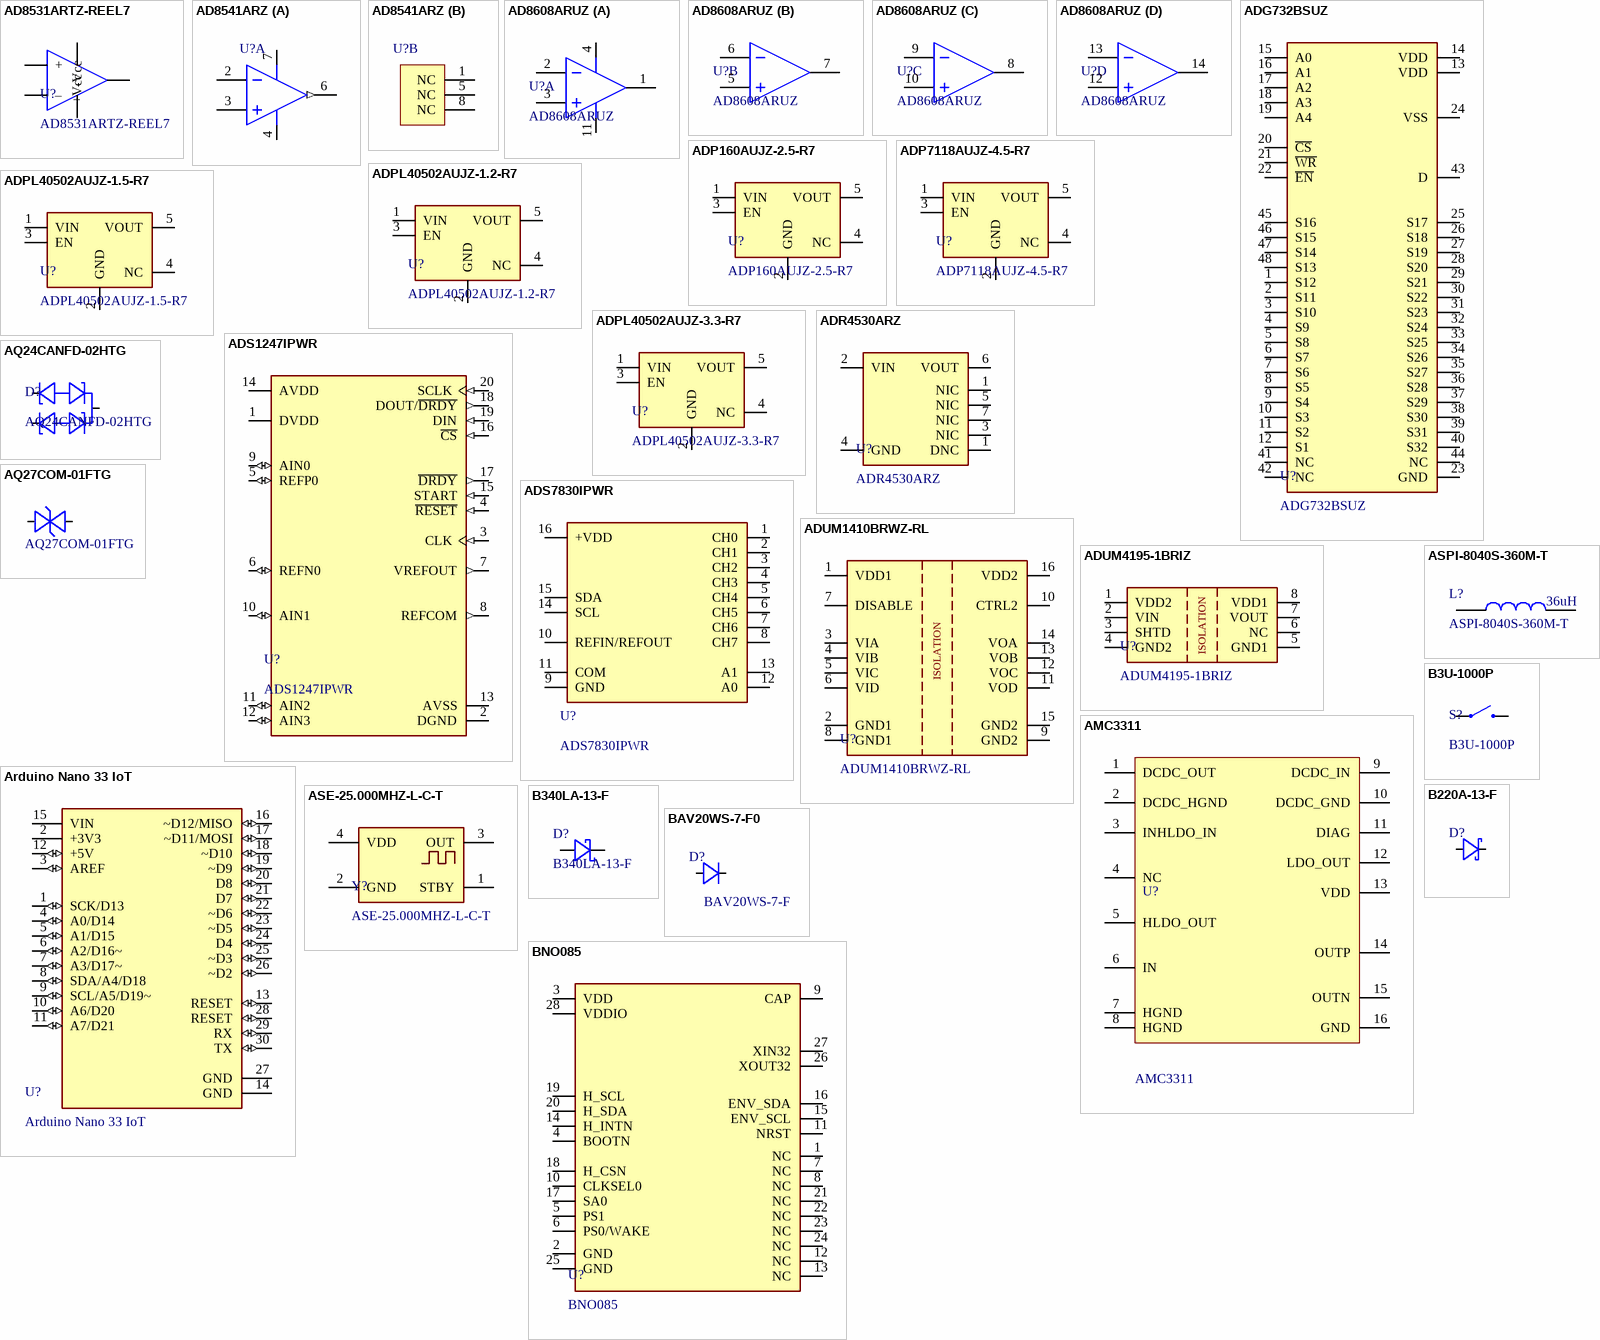
[diagram p2: symbols AD8531ARTZ-REEL7 to BNO085]

## AD8531ARTZ-REEL7
designator U?
Opamp - Single 250mA 2.7V - 6V 3MHz; Supply Voltage: 2.7V ~ 6V; Slew Rate: 5V/us; Part Number: AD8531ARTZ-REEL7; Output Current: 250mA; Operating temperature: -40C ~ 85C
footprint SOT23-5 IC (SOT23-5)
pins: 1 Out, 2 -Vcc, 3 +, 4 –, 5 +Vcc

## AD8541ARZ
designator U?  (value not drawn)
Single Channel RRIO Operational Amplifier, 1 MHz BW, 920 mV/us SR, Industrial, 8-pin MSOP8, Reel; PartNumber: AD8541ARZ-REEL7; Manufacturer: Analog Devices; Small Signal Bandwidth: 1MHz; Amplifiers Per Package: 1; V Span Max: 5.5V; V Span Min: 2.7V; Iq/Amp: 65uA; Input Bias Current: 4pA; Input Offset Voltage: 1mV; ComponentLink2URL: http://www.analog.com/static/imported-files/data_sheets/AD8541_8542_8544.pdf; Part Number: AD8541ARZ; ComponentLink4URL: http://www.analog.com/en/all-operational-amplifiers-op-amps/operational-amplifiers-op-amps/ad8541/products/product.html#product-recommendations; ComponentLink1Description: Manufacturer URL; ComponentLink1URL: http://www.analog.com/en/index.html; ComponentLink3URL: http://www.analog.com/static/imported-files/packages/PKG_PDF/SOIC_Narrow%20(R)/R_8.pdf; ComponentLink2Description: Datasheet; PackageDescription: 8-Pin Standard Small Outline Package, Body 3.9 x 4.9 mm, Pitch 1.27 mm; ComponentLink3Description: Package Specification; RevisionNote: Reference Circuit URL fixed; PackageReference: R-8; Mounting Technology: Surface Mount; Code_JEDEC: MS-012-AA; DatasheetVersion: Rev. G; PackageVersion: 060506-A; ComponentLink4Description: Reference Circuit; Slew Rate: 920mV/us; Distributor Part Number: AD8541ARZ-ND; Distributor: Digikey
footprint SOIC-8 (SOIC-8 Analog Devices Spec)
part A pins: 2 -IN A, 3 +IN A, 4 -V (power), 6 OUT A (out), 7 +V (power)
part B pins: 1 NC, 5 NC, 8 NC

## AD8608ARUZ
designator U?
CMOS Amplifier 4 Circuit Rail-to-Rail 14-TSSOP; Voltage - Supply Span (Min): 2.7V; Voltage - Supply Span (Max): 5.5V; Voltage Input Offset: 80uV; Current - Output: 80mA; Current - Supply: 1mA; Part Number: AD8608ARUZ; Distributor: Digikey; Distributor Part Number: 505-AD8608ARUZ-ND; Operating Temperature: -40°C ~ 125°C
footprint 14-TSSOP (Analog Devices 14-TSSOP)
part A pins: 1 OUT A, 2 -IN A, 3 +IN A, 4 V+ (power), 11 v- (power)
part B pins: 5 +IN B, 6 -IN B, 7 OUT B
part C pins: 8 OUT C, 9 -IN A, 10 +IN A
part D pins: 12 +IN D, 13 -IN D, 14 OUT D

## ADG732BSUZ
designator U?
1 Circuit IC Switch 32:1 5.5Ohm 48-TQFP; On-State Resistance: 5/5Ohm; Voltage - Supply, Single (V+): 1.8V ~ 5.5V; Voltage - Supply, Dual (V±): ±2.5V; -3dB Bandwidth: 18MHz; Charge Injection: 1pC; Crosstalk: -72dB @ 1MHz; Part Number: ADG732BSUZ; Operating Temperature: -40C ~ 125C; Distributor: Digikey; Distributor Part Number: 505-ADG732BSUZ-ND
footprint ADG732BSU (TQFP48)
pins: 1 S12, 2 S11, 3 S10, 4 S9, 5 S8, 6 S7, 7 S6, 8 S5, 9 S4, 10 S3, 11 S2, 12 S1, 13 VDD, 14 VDD, 15 A0, 16 A1, 17 A2, 18 A3, 19 A4, 20 ~{CS}, 21 ~{WR}, 22 ~{EN}, 23 GND, 24 VSS, 25 S17, 26 S18, 27 S19, 28 S20, 29 S21, 30 S22, 31 S23, 32 S24, 33 S25, 34 S26, 35 S27, 36 S28, 37 S29, 38 S30, 39 S31, 40 S32, 41 NC, 42 NC, 43 D, 44 NC, 45 S16, 46 S15, 47 S14, 48 S13

## ADP160AUJZ-2.5-R7
designator U?
Linear Voltage Regulator IC Positive Fixed 2.5V Output 150mA TSOT-23-5; Voltage Input (Max): 5.5V; Part Number: ADP160AUJZ-2.5-R7; Distributor: Digikey; Distributor Part Number: ADP160AUJZ-2.5-R7CT-ND; Operating Temperature: -40°C ~ 125°C; Voltage Output: 2.5V; Output Current: 150mA
footprint SOT23-5 IC (SOT23-5)
pins: 1 VIN, 2 GND, 3 EN, 4 NC, 5 VOUT

## ADP7118AUJZ-4.5-R7
designator U?
Linear Voltage Regulator IC Positive Fixed 4.5V Output 200mA TSOT-23-5; Output Current: 150mA; Voltage Input (Max): 5.5V; Dropout Voltage (Max): 0.42V; Part Number: ADP7118AUJZ-4.5-R7; Distributor: Digikey; Distributor Part Number: 505-ADP7118AUJZ-4.5-R7CT-ND; Operating Temperature: -40°C ~ 125°C; Voltage Output: 4.5V
footprint SOT23-5 IC (SOT23-5)
pins: 1 VIN, 2 GND, 3 EN, 4 NC, 5 VOUT

## ADPL40502AUJZ-1.2-R7
designator U?
Linear Voltage Regulator IC Positive Fixed 1.2V Output 200mA TSOT-23-5; Voltage Dropout (Max): 0.23V @ 200mA; Voltage - Input (Max): 5.5V; Part Number: ADPL40502AUJZ-1.2-R7; Distributor: Digikey; Distributor Part Number: 505-ADPL40502AUJZ-1.2-R7CT-ND; Operating Temperature: -40°C ~ 125°C (TA); Current - Output: 200mA; Voltage Output: 1.2V
footprint SOT23-5 IC (SOT23-5)
pins: 1 VIN, 2 GND, 3 EN, 4 NC, 5 VOUT

## ADPL40502AUJZ-1.5-R7
designator U?
Linear Voltage Regulator IC Positive Fixed 1.5V Output 200mA TSOT-23-5; Voltage Dropout (Max): 0.23V @ 200mA; Voltage - Input (Max): 5.5V; Part Number: ADPL40502AUJZ-1.5-R7; Distributor: Digikey; Distributor Part Number: 505-ADPL40502AUJZ-1.5-R7CT-ND; Operating Temperature: -40°C ~ 125°C (TA); Current - Output: 200mA; Voltage Output: 1.5V
footprint SOT23-5 IC (SOT23-5)
pins: 1 VIN, 2 GND, 3 EN, 4 NC, 5 VOUT

## ADPL40502AUJZ-3.3-R7
designator U?
Linear Voltage Regulator IC Positive Fixed 3.3V Output 200mA TSOT-23-5; Voltage Dropout (Max): 0.23V @ 200mA; Voltage - Input (Max): 5.5V; Part Number: ADPL40502AUJZ-3.3-R7; Distributor: Digikey; Distributor Part Number: 505-ADPL40502AUJZ-3.3-R7CT-ND; Operating Temperature: -40°C ~ 125°C (TA); Current - Output: 200mA; Voltage Output: 3.3V
footprint SOT23-5 IC (SOT23-5)
pins: 1 VIN, 2 GND, 3 EN, 4 NC, 5 VOUT

## ADR4530ARZ
designator U?
Series Voltage Reference IC Fixed 3V V ±0.04% 10 mA 8-SOIC; Noise - 0.1Hz to 10Hz: 1.6UvPP; Voltage Input: 3.4V ~ 15V; Current - Supply: 950uA; Voltage - Output: 3; Current - Output: 10mA; Part Number: ADR4530ARZ; Distributor Part Number: 505-ADR4530ARZ-ND; Distributor: Digikey; Operating Temperature: -40°C ~ 125°C (TA)
footprint SOIC-8 (SOIC-8 Analog Devices Spec)
pins: 1 NIC, 1 DNC, 2 VIN, 3 NIC, 4 GND, 5 NIC, 6 VOUT, 7 NIC

## ADS1247IPWR
designator U?
24 Bit Analog to Digital Converter 2, 3 Input 1 Sigma-Delta 20-TSSOP; Manufacturer: Texas Instruments; Voltage - Supply, Analog: 2.7V ~ 5.25V; Number of A/D Converters: 1; Resolution: 24bit; Sample Rate: 2kS/s; Part Number: ADS1247IPWR; Distributor: Digikey; Distributor Part Number: 296-41189-1-ND; Voltage - Supply, Digital: 2.7V ~ 5.25V; Operating Temperature: -40°C ~ 105°C
footprint ADS1247IPWR (TSSOP-20)
pins: 1 DVDD, 2 DGND, 3 CLK (in), 4 ~{RESET} (in), 5 REFP0 (io), 6 REFN0 (io), 7 VREFOUT (out), 8 REFCOM (out), 9 AIN0 (io), 10 AIN1 (io), 11 AIN2 (io), 12 AIN3 (io), 13 AVSS, 14 AVDD, 15 START (in), 16 ~{CS} (in), 17 ~{DRDY} (out), 18 DOUT/~{DRDY} (out), 19 DIN (in), 20 SCLK (in)

## ADS7830IPWR
designator U?
8 Bit Analog to Digital Converter 4, 8 Input 1 SAR 16-TSSOP; Voltage Supply (Analog): 2.7V ~ 3.6V, 5V; Sample Rate: 70ksps; Number of bits: 8; Part Number: ADS7830IPWR; Distributor: Digikey; Distributor Part Number: 296-25899-1-ND; Operating Temperature: -40°C ~ 85°C; Voltage Supply (Digital): 2.7V ~ 3.6V, 5V
footprint TSSOP-16
pins: 1 CH0, 2 CH1, 3 CH2, 4 CH3, 5 CH4, 6 CH5, 7 CH6, 8 CH7, 9 GND, 10 REFIN/REFOUT, 11 COM, 12 A0, 13 A1, 14 SCL, 15 SDA, 16 +VDD

## ADUM1410BRWZ-RL
designator U?
Quad-Channel Digital Isolator 3V/5V 10Mbps; Maximum Repetitive Isolation Voltage: 560V; Output Rise Time: 2.5ns; Output Dynamic Supply Current: 0.04mA; Input Dynamic Supply Current: 0.12mA; Transient Isolation Voltage: 4000V; Working Insulation Voltage: 396V RMS; Part Number: ADUM1410BRWZ-RL; ComponentLink1Description: Datasheet; ComponentLink1URL: https://www.analog.com/media/en/technical-documentation/data-sheets/ADUM1410_1411_1412.pdf; Operating Temperature: -40C ~ 105C
footprint ADUM1410BRWZ-RL (Digital Isolators QUAD-CHANNEL DIGITAL ISOLATORS)
pins: 1 VDD1, 2 GND1, 3 VIA, 4 VIB, 5 VIC, 6 VID, 7 DISABLE, 8 GND1, 9 GND2, 10 CTRL2, 11 VOD, 12 VOC, 13 VOB, 14 VOA, 15 GND2, 16 VDD2
text: ISOLATION

## ADUM4195-1BRIZ
designator U?
Isolated Amplifier Fixed Gain Single Ended 5.5V; Isolation voltage: 5000V RMS; VDD1: 4.5V~5.5V; Gain: 1; Offset Error: 5mV; Bandwidth: 210kHz; Part Number: ADUM4195-1BRIZ; Operating Temperature: -40C ~ 125C; VDD2: 4.5V~5.5V; ComponentLink1Description: Datasheet; ComponentLink1URL: https://www.analog.com/media/en/technical-documentation/data-sheets/adum4195-1.pdf
footprint ADUM4195-1BRIZ-R7 (Isolator, Error Amplifier IC 8-SOIC-IC)
pins: 1 VDD2, 2 VIN, 3 SHTD, 4 GND2, 5 GND1, 6 NC, 7 VOUT, 8 VDD1
text: ISOLATION

## AMC3311
designator U?  Manufacturer Part Number: AMC3311
AMC3311 Precision, 2-V Input, Reinforced Isolated Amplifier / With Integrated DC/DC Converter; Package: SOIC16; Operating Temperature: -40C to 125C; Distributor Part Number: *
footprint SOIC16-WIDE BODY
pins: 1 DCDC_OUT, 2 DCDC_HGND, 3 INHLDO_IN, 4 NC, 5 HLDO_OUT, 6 IN, 7 HGND, 8 HGND, 9 DCDC_IN, 10 DCDC_GND, 11 DIAG, 12 LDO_OUT, 13 VDD, 14 OUTP, 15 OUTN, 16 GND

## AQ24CANFD-02HTG
designator D?
50V Clamp 3A (8/20µs) Ipp Tvs Diode Surface Mount SOT-23-3; Qualification: AEC-Q101; Voltage - Reverse Standoff (Typ): 24V; Voltage - Breakdown (Min): 26.7V; Power - Peak Pulse: 200W; Capacitance: 11.5pF @ 1MHz; Part Number: AQ24CANFD-02HTG; Distributor Part Number: F10993CT-ND; Distributor: Digikey; Operating Temperature: -40°C ~ 150°C; Voltage - Clamping (Max): 50V; Current - Peak Pulse (10us/1000us): 3A
footprint SOT23-3 IC (Diodes Incorporated SOT-23 land pattern with IC pin designators)
pins: 1, 2, 3

## AQ27COM-01FTG
designator D?  Part Number: AQ27COM-01FTG
Transient Voltage Suppression Diodes - TVS 27V 4A 30kV 12pF SOD323 Diode Array; Clamping Voltage: 50V; Breakdown Voltage: 28V; Vesd: 32kV; Working Voltage: 27V; Ipp - Peak Pulse Current: 4A; Temperature Range: -40~150°C
footprint SOD-323 (SOD-323 small outline)
pins: A, K

## Arduino Nano 33 IoT
designator U?
Development board Arduino Nano 33 Iot; Part Number: ABX00032; Digikey Part Number: 1050-ABX00032-ND; ComponentLink1Description: Datasheet; ComponentLink1URL: https://mm.digikey.com/Volume0/opasdata/d220001/medias/docus/697/ABX00032_Web.pdf
footprint Arduino Nano 33 IOT
pins: 1 SCK/D13 (io) "SCK/PA17/D13", 2 +3V3 (power), 3 AREF (io) "PA2", 4 A0/D14 (io), 5 A1/D15 (io), 6 A2/D16~ (io), 7 A3/D17~ (io), 8 SDA/A4/D18 (io), 9 SCL/A5/D19~ (io) "PA8/MCO1/USART1_CK/TIM1_CH1/I2C3_SCL/OTG_FS_SOF/EVENTOUT", 10 A6/D20 (io), 11 A7/D21 (io), 12 +5V (io), 13 RESET (io), 14 GND (power), 15 VIN (power), 16 ~D12/MISO (io), 17 ~D11/MOSI (io), 18 ~D10 (io), 19 ~D9 (io), 20 D8 (io), 21 D7 (io), 22 ~D6 (io), 23 ~D5 (io), 24 D4 (io), 25 ~D3 (io) "PA9/USART1_TX/TIM1_CH2/I2C3_SMBA/DCMI_D0/EVENTOUT/OTG_FS_VBUS", 26 ~D2 (io), 27 GND (power), 28 RESET (io), 29 RX (io), 30 TX (io)

## ASE-25.000MHZ-L-C-T
designator Y?
25 MHz XO (Standard) CMOS Oscillator 3.3V Enable/Disable 4-SMD, No Lead; Frequency: 25MHz; Stability: 50ppm; Part Number: ASE-25.000MHZ-L-C-T; Distributor: Digikey; Distributor Part Number: 535-ASE-25.000MHZ-L-C-TCT-ND; Operating Temperature: -40°C ~ 85°C
footprint ASE-25.000MHZ-LC-T
pins: 1 STBY, 2 GND, 3 OUT, 4 VDD

## ASPI-8040S-360M-T
designator L?  Inductance: 36uH
Inductor 36 µH Shielded Drum Core, 1.75 A 102mOhm Nonstandard; Current Rating: 1.75A; Current - Saturation: 2A; Tolerance: 20%; Value: 36u; Part Number: ASPI-8040S-360M-T; Distributor: Digikey; Distributor Part Number: 535-ASPI-8040S-360M-TCT-ND; DC Resistance: 102mOhm; Operating Temperature: -40°C ~ 125°C
simulation model L_Inductor_Default (Model Description)
footprint ASPI-8040S-360M-T (36 µH Shielded Drum Core Inductor)
pins: 1, 2

## B3U-1000P
designator S?
Tactile Switch SPST-NO Top Actuated Surface Mount; Part Number: B3U-1000P; Distributor: Digikey; Distributor Part Number: SW1020CT-ND; Operating Temperature: -25°C ~ 70°C
footprint B3U-1000P (Push Button)
pins: 1, 2

## B220A-13-F
designator D?
SCHOTTKY BARRIER RECTIFIER, 2A, 20V, SMA-2; Part Number: B220A-13-F; Voltage - Forward (Vf) (Max): 500mV@2A; Digikey Part Number: B220A-FDICT-ND; Current - Average Rectified (Io): 2A; Operating Temperature: -65C ~ 150C
footprint DO-214 (Diodes Incorporated standard DO-214 footprint)
pins: A, K

## B340LA-13-F
designator D?
Diode Schottky 40V 3A 450mV FVf Fast Recovery; Part Number: B340LA-13-F; Distributor: Digikey; Distributor Part Number: B340LA-FDICT-ND; Operating Temperature: -55°C ~ 125°C; Voltage - DC Reverse (Max): 40V; Current - Average Rectified: 3A; Voltage - Foward: 450mV
footprint DO-214 (Diodes Incorporated standard DO-214 footprint)
pins: A, K

## BAV20WS-7-F0
designator D?  Manufacturer Part Number: BAV20WS-7-F
Small Signal Switching Diode 150V 200mW; Vr (Max): 200; Ir (Max): 100n; Ifsm: 3@100us; Operating Temperature: -55 to 150C
footprint SOD-323 (SOD-323 small outline)
pins: A, K

## BNO085
designator U?
IMU 9DOF I2C, SPI UART; Part Number: BNO085; Distributor: Digikey; Distributor Part Number: 1888-1006-1-ND; Operating Temperature: -40°C ~ 85°C
footprint BNO085 (28-LGA (5.2x3.8))
pins: 1 NC, 2 GND, 3 VDD, 4 BOOTN, 5 PS1, 6 PS0/WAKE, 7 NC, 8 NC, 9 CAP, 10 CLKSEL0, 11 NRST, 12 NC, 13 NC, 14 H_INTN, 15 ENV_SCL, 16 ENV_SDA, 17 SA0, 18 H_CSN, 19 H_SCL, 20 H_SDA, 21 NC, 22 NC, 23 NC, 24 NC, 25 GND, 26 XOUT32, 27 XIN32, 28 VDDIO

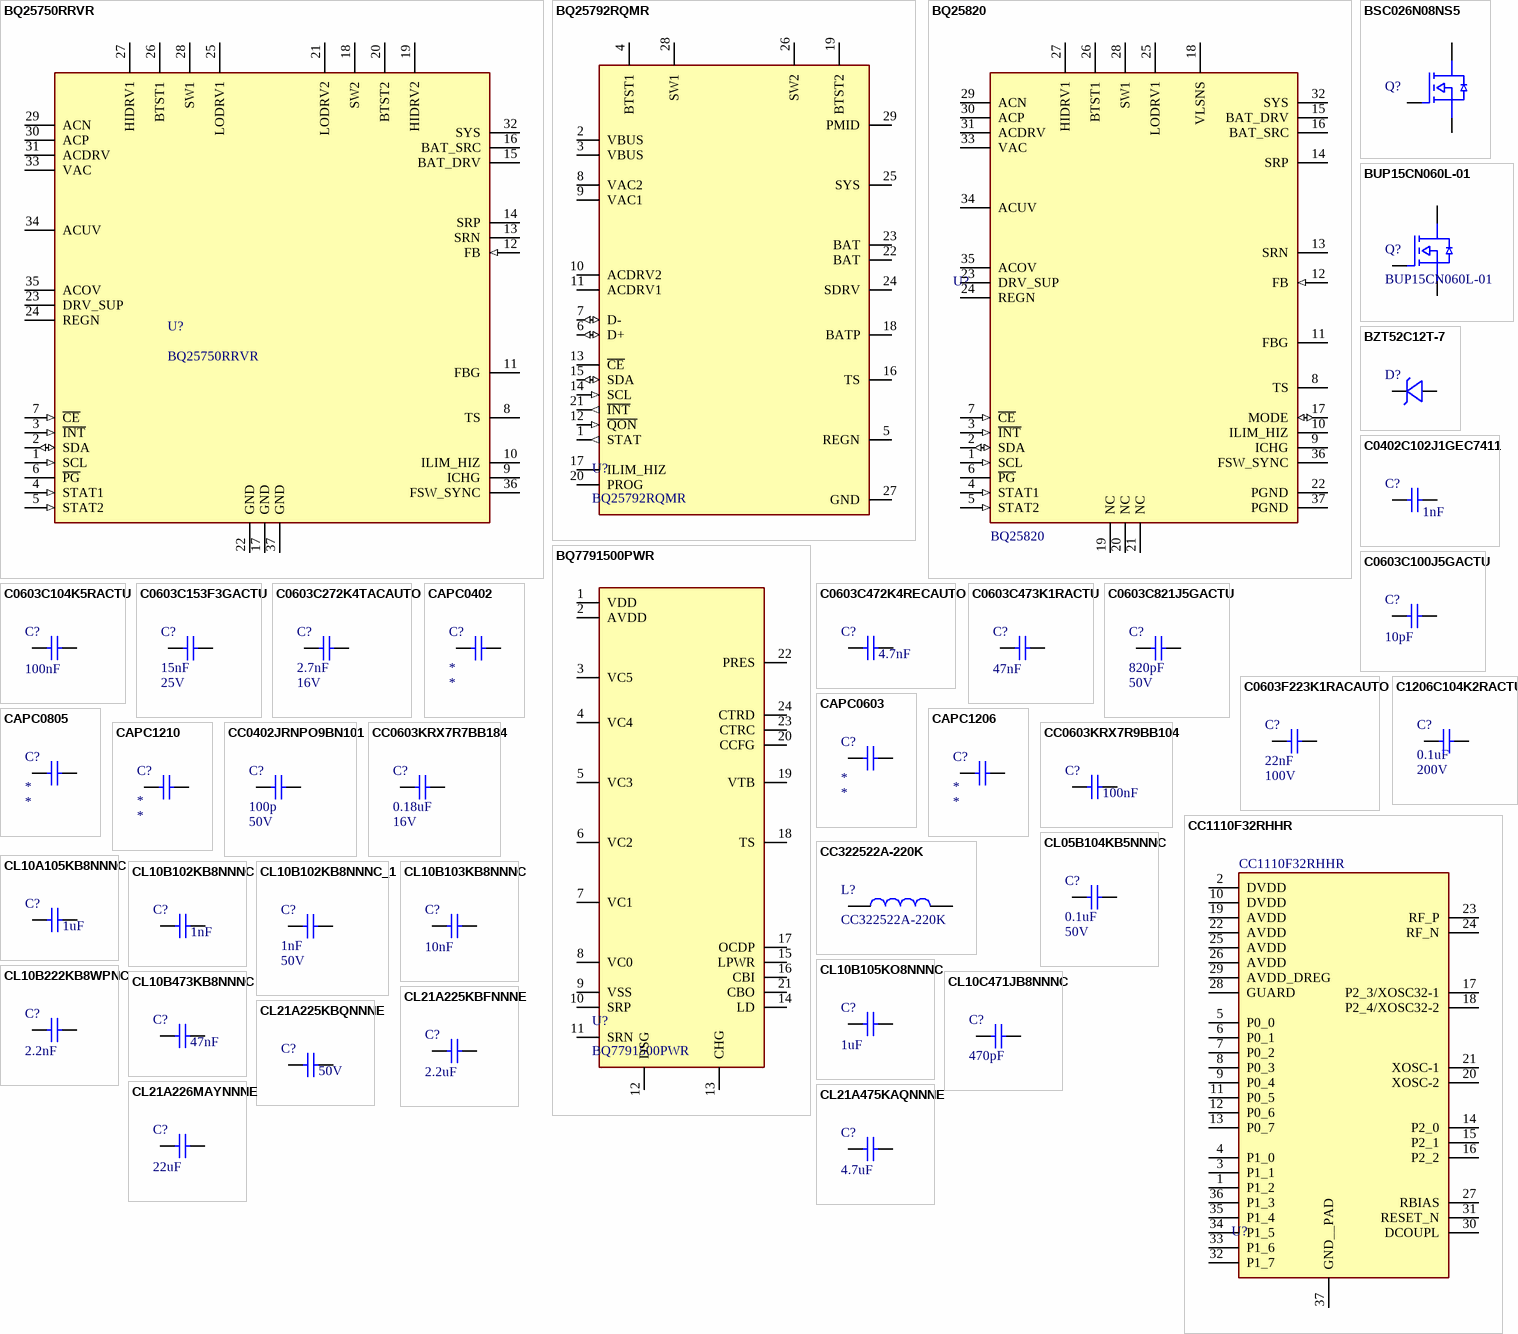
[diagram p3: symbols BQ25750RRVR to CL21A475KAQNNNE]

## BQ25750RRVR
designator U?
Standalone/I2C Controlled, 1- to 14-Cell Bidirectional Buck-Boost Battery Charge Controller with Direct Power Path Control 4.2V-70V.; Charge Current - Max: 20A; Battery Voltage - Min: 4.2V; Battery Voltage - Max: 70V; Number of Cells: 1~16; Part Number: BQ25750RRVR; Distributor Part Number: 595-BQ25750RRVR; Operating Temperature: -40C-125C; ComponentLink1Description: Datasheet; ComponentLink1URL: https://www.ti.com/lit/ds/symlink/bq25750.pdf?ts=1740981943200&ref_url=https%253A%252F%252Fwww.ti.com%252Fproduct%252FBQ25750; Distributor: Mouser
footprint BQ25750 (VQFN36)
pins: 1 SCL (in), 2 SDA (io), 3 ~{INT} (in), 4 STAT1 (in), 5 STAT2 (in), 6 ~{PG} (oc), 7 ~{CE} (in), 8 TS, 9 ICHG, 10 ILIM_HIZ, 11 FBG, 12 FB (in), 13 SRN, 14 SRP, 15 BAT_DRV, 16 BAT_SRC, 17 GND (power), 18 SW2, 19 HIDRV2, 20 BTST2, 21 LODRV2, 22 GND (power), 23 DRV_SUP, 24 REGN, 25 LODRV1, 26 BTST1, 27 HIDRV1, 28 SW1, 29 ACN, 30 ACP, 31 ACDRV, 32 SYS (power), 33 VAC (power), 34 ACUV, 35 ACOV, 36 FSW_SYNC, 37 GND (power)

## BQ25792RQMR
designator U?
I2C Controlled, 1-4 Cell, 5-A Buck-Boost Battery Charger with Dual-Input / Selector and USB PD 3.0 OTG Output; Number of Cells: 1 ~ 4; Charge Current - Max: 5A; Battery Pack Voltage (Max): 18.8V; Voltage - Supply (Max): 24V; Part Number: BQ25792RQMR; Distributor Part Number: 296-BQ25792RQMRCT-ND; Distributor: Digikey; Operating Temperature: -40°C ~ 85°C
footprint BQ25792RQMR (29-VFQFN)
pins: 1 STAT (out), 2 VBUS, 3 VBUS, 4 BTST1, 5 REGN, 6 D+ (io), 7 D- (io), 8 VAC2, 9 VAC1, 10 ACDRV2, 11 ACDRV1, 12 ~{QON} (in), 13 ~{CE}, 14 SCL (in), 15 SDA (io), 16 TS, 17 ILIM_HIZ, 18 BATP, 19 BTST2, 20 PROG, 21 ~{INT} (out), 22 BAT, 23 BAT, 24 SDRV, 25 SYS, 26 SW2, 27 GND, 28 SW1, 29 PMID

## BQ25820
designator U?  Manufacturer Part Number: BQ25820
Stand-alone or I²C controlled 70V bidirectional buck charge controller with power path; Distributor Part Number: *; Package: *; Qualification: *
footprint BQ25820
pins: 1 SCL (in), 2 SDA (io), 3 ~{INT} (in), 4 STAT1 (in), 5 STAT2 (in), 6 ~{PG} (oc), 7 ~{CE} (in), 8 TS, 9 ICHG, 10 ILIM_HIZ, 11 FBG, 12 FB (in), 13 SRN, 14 SRP, 15 BAT_DRV, 16 BAT_SRC, 17 MODE (io), 18 VLSNS, 19 NC, 20 NC, 21 NC, 22 PGND (power), 23 DRV_SUP, 24 REGN, 25 LODRV1, 26 BTST1, 27 HIDRV1, 28 SW1, 29 ACN, 30 ACP, 31 ACDRV, 32 SYS (power), 33 VAC (power), 34 ACUV, 35 ACOV, 36 FSW_SYNC, 37 PGND (power)

## BQ7791500PWR
designator U?
Battery Battery Protection IC Lithium Ion/Polymer 24-TSSOP; OV Threshold: 4200mV; OV Delay: 1s; UV Threshold: 2900mV; Part Number: BQ7791500PWR; Distributor: Digikey; Distributor Part Number: 296-50995-1-ND; Operating Temperature: -25C~85C; UV Delay: 1s
footprint TSSOP-24
pins: 1 VDD, 2 AVDD, 3 VC5, 4 VC4, 5 VC3, 6 VC2, 7 VC1, 8 VC0, 9 VSS, 10 SRP, 11 SRN, 12 DSG, 13 CHG, 14 LD, 15 LPWR, 16 CBI, 17 OCDP, 18 TS, 19 VTB, 20 CCFG, 21 CBO, 22 PRES, 23 CTRC, 24 CTRD

## BSC026N08NS5
designator Q?
80V N-Channel 23A (Ta), 100A (Tc) 2.5W (Ta), 156W (Tc) Surface Mount PG-TDSON-8-6; Manufacturer Part Number: BSC026N08NS5; Vgs (Max): 20; Vds (Max): 4; Qg: 92nC@10V; Vth: 3.8V; Id: 23; Power Dissipation: 3.1W; Drive Voltage: 6V~10V; Rds On (Max) @ Id, Vgs: 2.6mOhm @ 50A, 10V; Distributor Part Number: BSC026N08NS5ATMA1CT-ND; Distributor: Digikey; Operating Temperature: -55°C ~ 150°C (TJ); Power Dissipation (Max): 2.5W (Ta), 156W (Tc)
footprint PG-TDSON-8-5 (PG-TDSON-8-5 MOSFET Pacakge)
pins: D, G, S

## BUP15CN060L-01
designator Q?
N-Channel 150V, 60mOhm, 36A 150W Radiation Tolerant MOSFET; TID: 30kRad; Vgth: 2V to 4V; Part Number: BUP15CN060L-01; Distributor: *; Ids: 36A; Operating Temperature: -40°C to 125°C; Ptot: 150W; Rdson: 60mOhm; VBRDSS: 150V
footprint PG-TO263-3 (Infineon D2PAK TO263-3-2)
pins: D, G, S

## BZT52C12T-7
designator D?  (value not drawn)
Zener Diode 12 V 300 mW ±5% Surface Mount SOD-523; Voltage - Zener: 12V; Power - Max: 300mW; Part Number: BZT52C12T-7; Distributor Part Number: BZT52C12T-7DICT-ND; Operating Temperature: -65°C ~ 150°C
footprint SOD-523
pins: A, K

## C0402C102J1GEC7411
designator C?  Capacitance: 1nF  (hidden comment: C0402C102J1GEC7411)
1nF ±5% 100V Ceramic Capacitor C0G, NP0 0402 (1005 Metric); Manufacturer: KEMET; Part Number: C0402C102J1GEC7411; Tolerance: 5%; Distributor Part Number: 399-C0402C102J1GEC7411CT-ND; Case Code: 0402; Distributor: Digikey; Dielectric: C0G; Voltage Rating: 100V
footprint CAPC0402X020 (Chip Capacitor, 2-Leads, Body 1.00x0.50mm, IPC Medium Density)
footprint CAPC0402X045
pins: 1, 2

## C0603C100J5GACTU
designator C?, comment Capacitance: 10pF  (hidden comment: C0603C104K5RACTU)
10 pF ±5% 50V Ceramic Capacitor C0G, NP0 0603 (1608 Metric); Part Number: C0603C100J5GACTU; Tolerance: 10%; Distributor Part Number: 399-C0603C100J5GACTUCT-ND; Case Code: 0603; Distributor: Digikey; Voltage Rating: 50V
footprint CAPC0603X040 (Chip Capacitor, 2-Leads, Body 1.60x0.80mm, IPC Medium Density)
footprint CAPC0603X060 (Chip Capacitor, 2-Leads, Body 1.60x0.80mm, IPC Medium Density)
footprint CAPC0603X080 (Chip Capacitor, 2-Leads, Body 1.60x0.80mm, IPC Medium Density)
pins: 1, 2

## C0603C104K5RACTU
designator C?  Capacitance: 100nF  (hidden comment: C0603C104K5RACTU)
0.1 µF ±10% 50V Ceramic Capacitor X7R 0603 (1608 Metric); Part Number: C0603C104K5RACTU; Distributor Part Number: 399-C0603C104K5RACTUCT-ND; Tolerance: 10%; Case Code: 0603; Distributor: Digikey; Voltage Rating: 50V
footprint CAPC0603X040 (Chip Capacitor, 2-Leads, Body 1.60x0.80mm, IPC Medium Density)
footprint CAPC0603X060 (Chip Capacitor, 2-Leads, Body 1.60x0.80mm, IPC Medium Density)
footprint CAPC0603X080 (Chip Capacitor, 2-Leads, Body 1.60x0.80mm, IPC Medium Density)
pins: 1, 2

## C0603C153F3GACTU
designator C?  Voltage Rating: 25V  Capacitance: 15nF  (hidden comment: C0603C153F3GACTU)
0.015 µF ±1% 25V Ceramic Capacitor C0G, NP0 0603 (1608 Metric); Part Number: C0603C153F3GACTU; Tolerance: 1%; Distributor Part number: 399-C0603C153F3GACTUCT-ND; Case Code: 0603; Distributor: Digikey; Dielectric: C0G
footprint CAPC0603X040 (Chip Capacitor, 2-Leads, Body 1.60x0.80mm, IPC Medium Density)
footprint CAPC0603X060 (Chip Capacitor, 2-Leads, Body 1.60x0.80mm, IPC Medium Density)
footprint CAPC0603X070 (Chip Capacitor, 2-Leads, Body 1.60x0.80mm, IPC Medium Density)
footprint CAPC0603X080 (Chip Capacitor, 2-Leads, Body 1.60x0.80mm, IPC Medium Density)
footprint CAPC0603X090 (Chip Capacitor, 2-Leads, Body 1.60x0.80mm, IPC Medium Density)
pins: 1, 2